# Altium integrated library TI Power Management Power Modules.IntLib: 831 symbols (part 11 of 44)
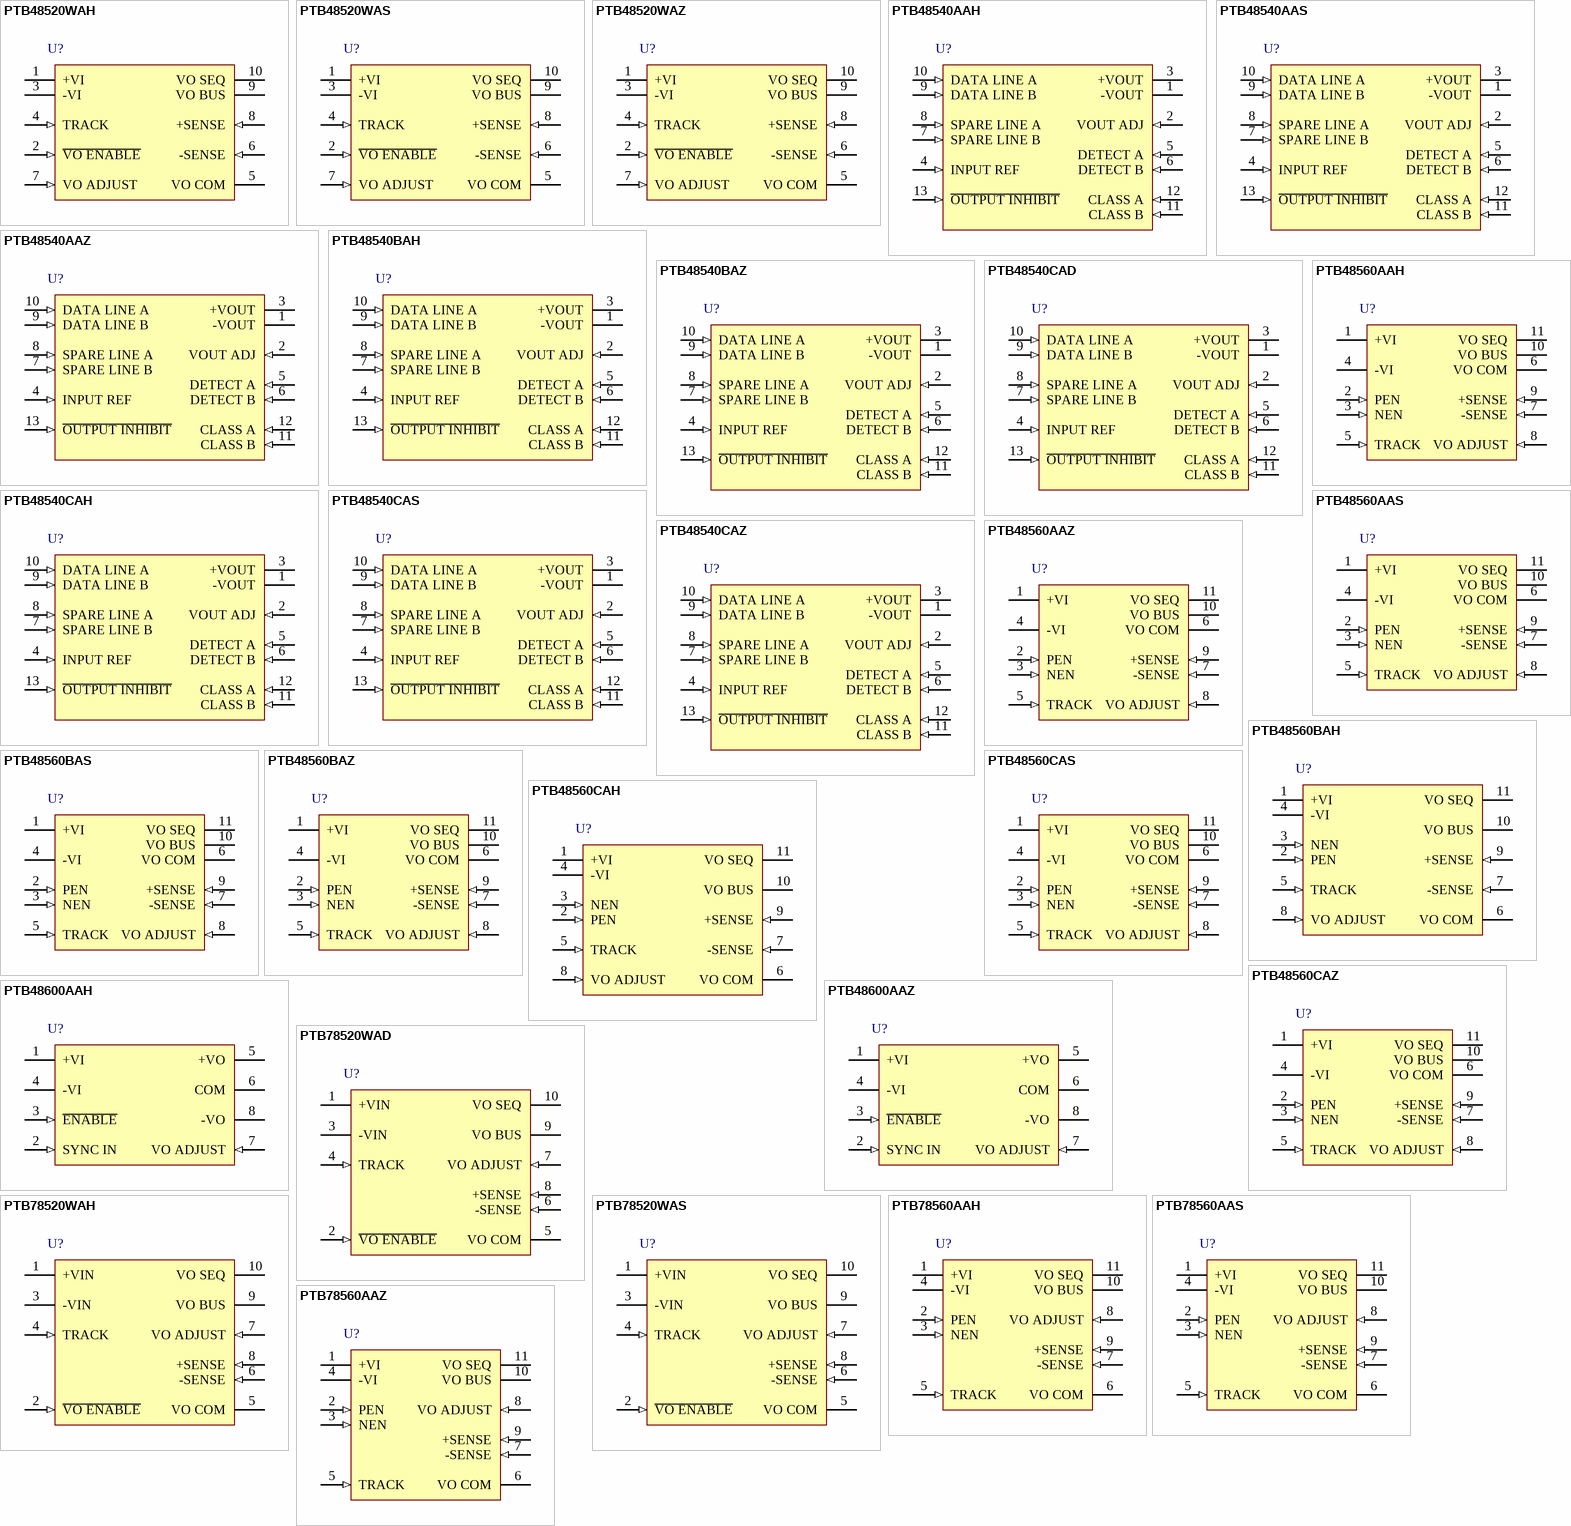
[diagram p33: symbols PTB48520WAH to PTB78560AAZ]

## PTB48560CAS
designator U?
30 W, 9 to 13.2 V Adjustable DC-DC Converter with Auto-Track, -40 to 85 degC, 11-pin Module (ERY11); Manufacturer: Texas Instruments; PartNumber: PTB48560CAS; Eco-Plan: TBD; Iout(Max)(A): 2.5; Regulated Outputs(#): 1; SubFamily: Standard Brick Module; Vin(Max)(V): 75; Vin(Min)(V): 36; VO Adjustable: TRUE; Vout(Max)(V): 13.2; Vout(Min)(V): 9; DatasheetVersion: SLTS236A; PackageVersion: 4206563/A; PackageReference: ERY11; PackageDescription: 11-Pin Plastic Special Shape, Body 26.54 x 51.94 mm; Supplier 1: Digi-Key; Supplier Part Number 1: 296-20345-ND; Supplier 2: Newark; Supplier Part Number 2: 28K3815; Supplier 3: Mouser; Supplier Part Number 3: 595-PTB48560CAS; Mounting Technology: Surface Mount; ComponentLink1Description: Manufacturer URL; ComponentLink1URL: http://www.ti.com/; ComponentLink2Description: Datasheet; ComponentLink2URL: http://www.ti.com/general/docs/lit/getliterature.tsp?genericPartNumber=PTB48560C&fileType=pdf; ComponentLink3Description: Package Specification; ComponentLink3URL: http://www.ti.com/lit/ml/mpds198/mpds198.pdf; ComponentLink4Description: URL Link1; ComponentLink4URL: Samples URL:http://www.ti.com/product/ptb48560c#samples
footprint TI-ERY11_V (Module, 11-Leads, Body 51.94x26.54mm)
pins: 1 +VI (power) "The positive input for the module with respect to -VI . When powering the module from a negative input voltage, this input is connected to the input source ground.", 2 PEN (in) "An open-collector (open-drain) positive logic input that is referenced to -VI . When this input is pulled to potential the converter output is disabled. This input must be open circuit for the converter to operate. The (See Datasheet)", 3 NEN (in) "An open-collector (open-drain) negative logic input that is referenced to -VI . This input must be pulled to -VI potential to enable the converter. When the input is open circuit, the converter output is disabled. If the (See Datasheet)", 4 -VI (power) "The negative input supply for the module, and the 0-V reference for the PEN and NEN enable inputs. When powering the module from a positive source, this input is connected to the input source return.", 5 TRACK (in) "This terminal is used in power-up sequencing applications to control the output voltage of Auto-Track compatible modules, powered from the converter VOBus output. This includes the converter VOSeq output on the PTB78560B. (See Datasheet)", 6 VO COM (power) "This is the output power return for both the VO Bus and VO Seq output voltages. This terminal should be connected to the common of the load circuit.", 7 -SENSE (in) "Provides the converter with a remote sense capability when used with +Sense. For optimum output voltage accuracy, this pin should always be connected to VOCOM, close to the load circuit. This terminal is also the reference (See Datasheet)", 8 VO ADJUST (in) "A resistor must be connected between this terminal and -Sense to set the converter output voltage. A 0.05-W rated resistor may be used, with tolerance and temperature stability of 1% and 100 ppm/degreesC, respectively. If (See Datasheet)", 9 +SENSE (in) "The +Sense pin can be connected to VOBus (or VOSeq) output. When connected to VOSeq, remote sense compensation is delayed until the converter's power-up sequence is complete. The voltage at VOBus is also raised slightly. The (See Datasheet)", 10 VO BUS (power) "This is the positive power output with respect to VO COM, and the main output from the converter. It is dc isolated from the input power pins and produces a valid output voltage approximately 20 ms before the voltage at the (See Datasheet)", 11 VO SEQ (power) "This is a sequenced output voltage from the converter that is controlled by the Track terminal during power-up transitions. It is only available to the PTB78560B, and used with the output voltage set to 3.3 V (an I/O supply (See Datasheet)"

## PTB48560CAZ
designator U?
30 W, 9 to 13.2 V Adjustable DC-DC Converter with Auto-Track, -40 to 85 degC, 11-pin Module (ERY11), Pb-Free (RoHS); Manufacturer: Texas Instruments; PartNumber: PTB48560CAZ; Iout(Max)(A): 2.5; Regulated Outputs(#): 1; SubFamily: Standard Brick Module; Vin(Max)(V): 75; Vin(Min)(V): 36; VO Adjustable: TRUE; Vout(Max)(V): 13.2; Vout(Min)(V): 9; DatasheetVersion: SLTS236A; PackageVersion: 4206563/A; PackageReference: ERY11; PackageDescription: 11-Pin Plastic Special Shape, Body 26.54 x 51.94 mm; Supplier 1: Digi-Key; Supplier Part Number 1: 296-20346-ND; Supplier 2: Mouser; Supplier Part Number 2: 595-PTB48560CAZ; Eco-Plan: Pb-Free (RoHS); Mounting Technology: Surface Mount; ComponentLink1Description: Manufacturer URL; ComponentLink1URL: http://www.ti.com/; ComponentLink2Description: Datasheet; ComponentLink2URL: http://www.ti.com/general/docs/lit/getliterature.tsp?genericPartNumber=PTB48560C&fileType=pdf; ComponentLink3Description: Package Specification; ComponentLink3URL: http://www.ti.com/lit/ml/mpds198/mpds198.pdf; ComponentLink4Description: URL Link1; ComponentLink4URL: Samples URL:http://www.ti.com/product/ptb48560c#samples
footprint TI-ERY11_V (Module, 11-Leads, Body 51.94x26.54mm)
pins: 1 +VI (power) "The positive input for the module with respect to -VI . When powering the module from a negative input voltage, this input is connected to the input source ground.", 2 PEN (in) "An open-collector (open-drain) positive logic input that is referenced to -VI . When this input is pulled to potential the converter output is disabled. This input must be open circuit for the converter to operate. The (See Datasheet)", 3 NEN (in) "An open-collector (open-drain) negative logic input that is referenced to -VI . This input must be pulled to -VI potential to enable the converter. When the input is open circuit, the converter output is disabled. If the (See Datasheet)", 4 -VI (power) "The negative input supply for the module, and the 0-V reference for the PEN and NEN enable inputs. When powering the module from a positive source, this input is connected to the input source return.", 5 TRACK (in) "This terminal is used in power-up sequencing applications to control the output voltage of Auto-Track compatible modules, powered from the converter VOBus output. This includes the converter VOSeq output on the PTB78560B. (See Datasheet)", 6 VO COM (power) "This is the output power return for both the VO Bus and VO Seq output voltages. This terminal should be connected to the common of the load circuit.", 7 -SENSE (in) "Provides the converter with a remote sense capability when used with +Sense. For optimum output voltage accuracy, this pin should always be connected to VOCOM, close to the load circuit. This terminal is also the reference (See Datasheet)", 8 VO ADJUST (in) "A resistor must be connected between this terminal and -Sense to set the converter output voltage. A 0.05-W rated resistor may be used, with tolerance and temperature stability of 1% and 100 ppm/degreesC, respectively. If (See Datasheet)", 9 +SENSE (in) "The +Sense pin can be connected to VOBus (or VOSeq) output. When connected to VOSeq, remote sense compensation is delayed until the converter's power-up sequence is complete. The voltage at VOBus is also raised slightly. The (See Datasheet)", 10 VO BUS (power) "This is the positive power output with respect to VO COM, and the main output from the converter. It is dc isolated from the input power pins and produces a valid output voltage approximately 20 ms before the voltage at the (See Datasheet)", 11 VO SEQ (power) "This is a sequenced output voltage from the converter that is controlled by the Track terminal during power-up transitions. It is only available to the PTB78560B, and used with the output voltage set to 3.3 V (an I/O supply (See Datasheet)"

## PTB48600AAH
designator U?
85 W Dual Complementary-Output DC-DC Converter, -40 to 85 degC, 8-pin Module (ERT8), Pb-Free (RoHS); Manufacturer: Texas Instruments; PartNumber: PTB48600AAH; Iout(Max)(A): 8.5; Regulated Outputs(#): 2; SubFamily: 36V to 75V Input; Vin(Max)(V): 75; Vin(Min)(V): 36; VO Adjustable: TRUE; Vout(Max)(V): 4.75; Vout(Min)(V): 5.25; DatasheetVersion: SLTS239; PackageVersion: 4206559-2/B; PackageReference: ERT8; PackageDescription: 8-Pin Plastic Special Shape, Body 48.01 x 56.39 mm; Supplier 1: Digi-Key; Supplier Part Number 1: 296-20984-ND; Supplier 2: Newark; Supplier Part Number 2: 24K4724; Supplier 3: Mouser; Supplier Part Number 3: 595-PTB48600AAH; Eco-Plan: Pb-Free (RoHS); Mounting Technology: Through Hole; ComponentLink1Description: Manufacturer URL; ComponentLink1URL: http://www.ti.com/; ComponentLink2Description: Datasheet; ComponentLink2URL: http://www.ti.com/general/docs/lit/getliterature.tsp?genericPartNumber=PTB48600A&fileType=pdf; ComponentLink3Description: Package Specification; ComponentLink3URL: http://www.ti.com/litv/pdf/mpds194a; ComponentLink4Description: URL Link1; ComponentLink4URL: Samples URL:http://www.ti.com/product/ptb48600a#samples
footprint TI-ERT8_V (Module, 8-Leads, Body 56.39x48.01mm)
pins: 1 +VI (power) "The positive input supply for the module with respect to -VI. When powering the module from a -48 V telecom central office supply, this input is connected to the primary system ground.", 2 SYNC IN (in) "This pin is used when the PTB48600 and PTB4850x DC/DC converter modules are used together. Connecting this pin to the ‘Sync Out’ of the PTB4850x module allows the PTB48600 to be synchronized to the same switch conversion (See Datasheet)", 3 ~{ENABLE} (in) "This is an open-collector (open-drain) negative logic input that enables the module output. This pin is referenced to -VI. A logic ‘0’ at this pin enables the module’s outputs, and a high impedance disables the outputs. If (See Datasheet)", 4 -VI (power) "The negative input supply for the module, and the 0 VDC reference for the ‘Enable*’, and ‘Sync In’ signals. When the module is powered from a +48-V supply, this input is connected to the 48-V Return.", 5 +VO (power) "The positive output supply voltage, which is referenced to the ‘COM’ node. The voltage at ‘+VO’ has the same magnitude, but is the complement to that at ‘-VO’.", 6 COM (power) "The secondary return reference for the module’s regulated output voltages. This node is dc isolated from the input supply pins.", 7 VO ADJUST (in) "Using a single resistor, this pin allows the magnitude of both ‘+VO’ and ‘-VO’ to be adjusted together, either higher or lower than their preset value. If not used, this pin should be left open circuit.", 8 -VO (power) "The negative output supply voltage, which is referenced to the ‘COM’ node. The voltage at ‘-VO’ has the same magnitude, but is the complement to that at ‘+VO’."

## PTB48600AAZ
designator U?
85 W Dual Complementary-Output DC-DC Converter, -40 to 85 degC, 8-pin Module (ERU8), Pb-Free (RoHS); Manufacturer: Texas Instruments; PartNumber: PTB48600AAZ; Iout(Max)(A): 8.5; Regulated Outputs(#): 2; SubFamily: 36V to 75V Input; Vin(Max)(V): 75; Vin(Min)(V): 36; VO Adjustable: TRUE; Vout(Max)(V): 4.75; Vout(Min)(V): 5.25; DatasheetVersion: SLTS239; PackageVersion: 4206560-2/B; PackageReference: ERU8; PackageDescription: 8-Pin Plastic Special Shape, Body 48.01 x 56.39 mm; Supplier 1: Digi-Key; Supplier Part Number 1: 296-20354-ND; Supplier 2: Newark; Supplier Part Number 2: 37K0692; Supplier 3: Mouser; Supplier Part Number 3: 595-PTB48600AAZ; Eco-Plan: Pb-Free (RoHS); Mounting Technology: Surface Mount; ComponentLink1Description: Manufacturer URL; ComponentLink1URL: http://www.ti.com/; ComponentLink2Description: Datasheet; ComponentLink2URL: http://www.ti.com/general/docs/lit/getliterature.tsp?genericPartNumber=PTB48600A&fileType=pdf; ComponentLink3Description: Package Specification; ComponentLink3URL: http://www.ti.com/lit/ml/mpds195a/mpds195a.pdf; ComponentLink4Description: URL Link1; ComponentLink4URL: Samples URL:http://www.ti.com/product/ptb48600a#samples
footprint TI-ERU8_V (Module, 8-Leads, Body 56.39x48.01mm)
pins: 1 +VI (power) "The positive input supply for the module with respect to -VI. When powering the module from a -48 V telecom central office supply, this input is connected to the primary system ground.", 2 SYNC IN (in) "This pin is used when the PTB48600 and PTB4850x DC/DC converter modules are used together. Connecting this pin to the ‘Sync Out’ of the PTB4850x module allows the PTB48600 to be synchronized to the same switch conversion (See Datasheet)", 3 ~{ENABLE} (in) "This is an open-collector (open-drain) negative logic input that enables the module output. This pin is referenced to -VI. A logic ‘0’ at this pin enables the module’s outputs, and a high impedance disables the outputs. If (See Datasheet)", 4 -VI (power) "The negative input supply for the module, and the 0 VDC reference for the ‘Enable*’, and ‘Sync In’ signals. When the module is powered from a +48-V supply, this input is connected to the 48-V Return.", 5 +VO (power) "The positive output supply voltage, which is referenced to the ‘COM’ node. The voltage at ‘+VO’ has the same magnitude, but is the complement to that at ‘-VO’.", 6 COM (power) "The secondary return reference for the module’s regulated output voltages. This node is dc isolated from the input supply pins.", 7 VO ADJUST (in) "Using a single resistor, this pin allows the magnitude of both ‘+VO’ and ‘-VO’ to be adjusted together, either higher or lower than their preset value. If not used, this pin should be left open circuit.", 8 -VO (power) "The negative output supply voltage, which is referenced to the ‘COM’ node. The voltage at ‘-VO’ has the same magnitude, but is the complement to that at ‘+VO’."

## PTB78520WAD
designator U?
20 A, 18 to 60 V Input Auto-Track Compatible Isolated DC-DC Converter, -40 to 85 degC, 10-pin Module (ERP10), Pb-Free (RoHS); Manufacturer: Texas Instruments; PartNumber: PTB78520WAD; Iout(Max)(A): 20; Regulated Outputs(#): 2; SubFamily: Standard Brick Module; Vin(Max)(V): 60; Vin(Min)(V): 18; VO Adjustable: TRUE; Vout(Max)(V): 3.6; Vout(Min)(V): 1.8; DatasheetVersion: SLTS226A; PackageVersion: 4206093/A; PackageReference: ERP10; PackageDescription: 10-Pin Plastic Special Shape, Body 36.83 x 56.39 mm; Supplier 1: Digi-Key; Supplier Part Number 1: PTB78520WAD-ND; Supplier 2: Mouser; Supplier Part Number 2: 595-PTB78520WAD; Eco-Plan: Pb-Free (RoHS); Mounting Technology: Through Hole; ComponentLink1Description: Manufacturer URL; ComponentLink1URL: http://www.ti.com/; ComponentLink2Description: Datasheet; ComponentLink2URL: http://www.ti.com/general/docs/lit/getliterature.tsp?genericPartNumber=PTB78520W&fileType=pdf; ComponentLink3Description: Package Specification; ComponentLink3URL: http://www.ti.com/litv/pdf/mpds170; ComponentLink4Description: URL Link1; ComponentLink4URL: Samples URL:http://www.ti.com/product/ptb78520w#samples
footprint TI-ERP10_V (Module, 10-Leads, Body 56.39x36.83mm)
pins: 1 +VIN (power) "The positive input for the module with respect to -VIN. When powering the module from a negative input voltage, this input is connected to the input source ground.", 2 ~{VO ENABLE} (in) "An open-collector (open-drain) negative logic input that is referenced to -VIN. This input must be pulled to -Vin potential to enable the output voltage. A highimpedance connection will disable the module output. If the (See Datasheet)", 3 -VIN (power) "The negative input supply for the module, and the 0-V reference for the ‘VO Enable’ input. When powering the module from a positive source, this input is connected to the input source return.", 4 TRACK (in) "The voltage at this pin directly controls the voltage at the ‘VO Seq’ regulated output. It is primarily used to sequence the voltage at ‘VO Seq’ with the regulated outputs from any downstream non-isolated modules that are (See Datasheet)", 5 VO COM (power) "This is the output power return for both the ‘VO Bus’ and ‘VO Seq’ output voltages. This node should be connected to the load circuit common.", 6 -SENSE (in) "Provides the converter with a remote sense capability when used in conjunction with +Sense. For optimum output voltage accuracy this pin should always be connected to ‘VO COM’. This pin is also the reference connection for (See Datasheet)", 7 VO ADJUST (in) "A resistor must be connected between this pin and ‘-Sense’ to set the converter’s output voltage. A 0.05-W rated resistor may be used, with tolerance and temperature stability of 1% and 100 ppm/degreesC, respectively. If (See Datasheet)", 8 +SENSE (in) "The ‘+Sense’ pin can be connected to either the ‘VO Bus’ or ‘VO Seq’ outputs. When connected to ‘VO Seq’, remote sense compensation will be delayed until the power-up sequence is complete. The voltage at ‘Vo Bus’ will also (See Datasheet)", 9 VO BUS (power) "Produces a positive power output with respect to ‘VO COM’. This is the main output from the converter when operated in a stand-alone configuration. It is dcisolated from the input power pins and is the first output to rise (See Datasheet)", 10 VO SEQ (power) "This is the sequenced output voltage from the converter. This voltage can be directly controlled from the Track pin. During power up, VO Seq will rise with the Track pin voltage, typically 20 ms after the VO Bus output has (See Datasheet)"

## PTB78520WAH
designator U?
20 A, 18 to 60 V Input Auto-Track Compatible Isolated DC-DC Converter, -40 to 85 degC, 10-pin Module (ERP10), Pb-Free (RoHS); Manufacturer: Texas Instruments; PartNumber: PTB78520WAH; Iout(Max)(A): 20; Regulated Outputs(#): 2; SubFamily: Standard Brick Module; Vin(Max)(V): 60; Vin(Min)(V): 18; VO Adjustable: TRUE; Vout(Max)(V): 3.6; Vout(Min)(V): 1.8; DatasheetVersion: SLTS226A; PackageVersion: 4206093/A; PackageReference: ERP10; PackageDescription: 10-Pin Plastic Special Shape, Body 36.83 x 56.39 mm; Supplier 1: Digi-Key; Supplier Part Number 1: 296-20355-ND; Supplier 2: Newark; Supplier Part Number 2: 44J0215; Supplier 3: Mouser; Supplier Part Number 3: 595-PTB78520WAH; Eco-Plan: Pb-Free (RoHS); Mounting Technology: Through Hole; ComponentLink1Description: Manufacturer URL; ComponentLink1URL: http://www.ti.com/; ComponentLink2Description: Datasheet; ComponentLink2URL: http://www.ti.com/general/docs/lit/getliterature.tsp?genericPartNumber=PTB78520W&fileType=pdf; ComponentLink3Description: Package Specification; ComponentLink3URL: http://www.ti.com/litv/pdf/mpds170; ComponentLink4Description: URL Link1; ComponentLink4URL: Samples URL:http://www.ti.com/product/ptb78520w#samples
footprint TI-ERP10_V (Module, 10-Leads, Body 56.39x36.83mm)
pins: 1 +VIN (power) "The positive input for the module with respect to -VIN. When powering the module from a negative input voltage, this input is connected to the input source ground.", 2 ~{VO ENABLE} (in) "An open-collector (open-drain) negative logic input that is referenced to -VIN. This input must be pulled to -Vin potential to enable the output voltage. A highimpedance connection will disable the module output. If the (See Datasheet)", 3 -VIN (power) "The negative input supply for the module, and the 0-V reference for the ‘VO Enable’ input. When powering the module from a positive source, this input is connected to the input source return.", 4 TRACK (in) "The voltage at this pin directly controls the voltage at the ‘VO Seq’ regulated output. It is primarily used to sequence the voltage at ‘VO Seq’ with the regulated outputs from any downstream non-isolated modules that are (See Datasheet)", 5 VO COM (power) "This is the output power return for both the ‘VO Bus’ and ‘VO Seq’ output voltages. This node should be connected to the load circuit common.", 6 -SENSE (in) "Provides the converter with a remote sense capability when used in conjunction with +Sense. For optimum output voltage accuracy this pin should always be connected to ‘VO COM’. This pin is also the reference connection for (See Datasheet)", 7 VO ADJUST (in) "A resistor must be connected between this pin and ‘-Sense’ to set the converter’s output voltage. A 0.05-W rated resistor may be used, with tolerance and temperature stability of 1% and 100 ppm/degreesC, respectively. If (See Datasheet)", 8 +SENSE (in) "The ‘+Sense’ pin can be connected to either the ‘VO Bus’ or ‘VO Seq’ outputs. When connected to ‘VO Seq’, remote sense compensation will be delayed until the power-up sequence is complete. The voltage at ‘Vo Bus’ will also (See Datasheet)", 9 VO BUS (power) "Produces a positive power output with respect to ‘VO COM’. This is the main output from the converter when operated in a stand-alone configuration. It is dcisolated from the input power pins and is the first output to rise (See Datasheet)", 10 VO SEQ (power) "This is the sequenced output voltage from the converter. This voltage can be directly controlled from the Track pin. During power up, VO Seq will rise with the Track pin voltage, typically 20 ms after the VO Bus output has (See Datasheet)"

## PTB78520WAS
designator U?
20 A, 18 to 60 V Input Auto-Track Compatible Isolated DC-DC Converter, -40 to 85 degC, 10-pin Module (ERQ10); Manufacturer: Texas Instruments; PartNumber: PTB78520WAS; Iout(Max)(A): 20; Regulated Outputs(#): 2; SubFamily: Standard Brick Module; Vin(Max)(V): 60; Vin(Min)(V): 18; VO Adjustable: TRUE; Vout(Max)(V): 3.6; Vout(Min)(V): 1.8; DatasheetVersion: SLTS226A; PackageVersion: 4206094-2/C; PackageReference: ERQ10; PackageDescription: 10-Pin Plastic Special Shape, Body 36.83 x 56.39 mm; Supplier 1: Digi-Key; Supplier Part Number 1: 296-20356-ND; Supplier 2: Newark; Supplier Part Number 2: 44J0216; Supplier 3: Mouser; Supplier Part Number 3: 595-PTB78520WAS; Mounting Technology: Surface Mount; ComponentLink1Description: Manufacturer URL; ComponentLink1URL: http://www.ti.com/; ComponentLink2Description: Datasheet; ComponentLink2URL: http://www.ti.com/general/docs/lit/getliterature.tsp?genericPartNumber=PTB78520W&fileType=pdf; ComponentLink3Description: Package Specification; ComponentLink3URL: http://www.ti.com/lit/ml/mpds171b/mpds171b.pdf; ComponentLink4Description: URL Link1; ComponentLink4URL: Samples URL:http://www.ti.com/product/ptb78520w#samples
footprint TI-ERQ10_V (Module, 10-Leads, Body 56.39x36.83mm, Pitch 3.81mm)
pins: 1 +VIN (power) "The positive input for the module with respect to -VIN. When powering the module from a negative input voltage, this input is connected to the input source ground.", 2 ~{VO ENABLE} (in) "An open-collector (open-drain) negative logic input that is referenced to -VIN. This input must be pulled to -Vin potential to enable the output voltage. A highimpedance connection will disable the module output. If the (See Datasheet)", 3 -VIN (power) "The negative input supply for the module, and the 0-V reference for the ‘VO Enable’ input. When powering the module from a positive source, this input is connected to the input source return.", 4 TRACK (in) "The voltage at this pin directly controls the voltage at the ‘VO Seq’ regulated output. It is primarily used to sequence the voltage at ‘VO Seq’ with the regulated outputs from any downstream non-isolated modules that are (See Datasheet)", 5 VO COM (power) "This is the output power return for both the ‘VO Bus’ and ‘VO Seq’ output voltages. This node should be connected to the load circuit common.", 6 -SENSE (in) "Provides the converter with a remote sense capability when used in conjunction with +Sense. For optimum output voltage accuracy this pin should always be connected to ‘VO COM’. This pin is also the reference connection for (See Datasheet)", 7 VO ADJUST (in) "A resistor must be connected between this pin and ‘-Sense’ to set the converter’s output voltage. A 0.05-W rated resistor may be used, with tolerance and temperature stability of 1% and 100 ppm/degreesC, respectively. If (See Datasheet)", 8 +SENSE (in) "The ‘+Sense’ pin can be connected to either the ‘VO Bus’ or ‘VO Seq’ outputs. When connected to ‘VO Seq’, remote sense compensation will be delayed until the power-up sequence is complete. The voltage at ‘Vo Bus’ will also (See Datasheet)", 9 VO BUS (power) "Produces a positive power output with respect to ‘VO COM’. This is the main output from the converter when operated in a stand-alone configuration. It is dcisolated from the input power pins and is the first output to rise (See Datasheet)", 10 VO SEQ (power) "This is the sequenced output voltage from the converter. This voltage can be directly controlled from the Track pin. During power up, VO Seq will rise with the Track pin voltage, typically 20 ms after the VO Bus output has (See Datasheet)"

## PTB78560AAH
designator U?
30 W, 24 V / 48 V Input DC-DC Converter With Auto-Track Sequencing, -40 to 85 degC, 11-pin Module (ERW11), Pb-Free (RoHS); Manufacturer: Texas Instruments; PartNumber: PTB78560AAH; Iout(Max)(A): 6; Regulated Outputs(#): 1; SubFamily: Standard Brick Module; Vin(Max)(V): 60; Vin(Min)(V): 18; VO Adjustable: TRUE; Vout(Max)(V): 5.5; Vout(Min)(V): 3.6; DatasheetVersion: SLTS249; PackageVersion: 4206562/A; PackageReference: ERW11; PackageDescription: 11-Pin Plastic Special Shape, Body 26.54 x 51.94 mm; Supplier 1: Digi-Key; Supplier Part Number 1: 296-20357-ND; Supplier 2: Newark; Supplier Part Number 2: 43K4048; Supplier 3: Mouser; Supplier Part Number 3: 595-PTB78560AAH; Eco-Plan: Pb-Free (RoHS); Mounting Technology: Through Hole; ComponentLink1Description: Manufacturer URL; ComponentLink1URL: http://www.ti.com/; ComponentLink2Description: Datasheet; ComponentLink2URL: http://www.ti.com/general/docs/lit/getliterature.tsp?genericPartNumber=PTB78560A&fileType=pdf; ComponentLink3Description: Package Specification; ComponentLink3URL: http://www.ti.com/litv/pdf/mpds197; ComponentLink4Description: URL Link1; ComponentLink4URL: Samples URL:http://www.ti.com/product/ptb78560a#samples
footprint TI-ERW11_V (Module, 11-Leads, Body 51.94x26.54 mm)
pins: 1 +VI (power) "The positive input for the module with respect to -VI. When powering the module from a negative input voltage,this input is connected to the input source ground.", 2 PEN (in) "An open-collector (open-drain) positive logic input that is referenced to -VI. When this input is pulled to -VI potential the converter output is disabled. This input must be open circuit for the converter to operate. The (See Datasheet)", 3 NEN (in) "An open-collector (open-drain) negative logic input that is referenced to -VI. This input must be pulled to -VI potential to enable the converter. When the input is open circuit, the converter output is disabled. If the (See Datasheet)", 4 -VI (power) "The negative input supply for the module, and the 0-V reference for the PEN and NEN enable inputs. When powering the module from a positive source, this input is connected to the input source return.", 5 TRACK (in) "This terminal is used in power-up sequencing applications to control the output voltage of Auto-Track compatible modules, powered from the converter VOBus output. This includes the converter VOSeq output on the PTB78560B. (See Datasheet)", 6 VO COM (power) "This is the output power return for both the VO Bus and VO Seq output voltages. This terminal should be connected to the common of the load circuit.", 7 -SENSE (in) "Provides the converter with a remote sense capability when used with +Sense. For optimum output voltage accuracy, this pin should always be connected to VOCOM, close to the load circuit. This terminal is also the reference (See Datasheet)", 8 VO ADJUST (in) "A resistor must be connected between this terminal and -Sense to set the converter output voltage. A 0.05-W rated resistor may be used, with tolerance and temperature stability of 1% and 100 ppm/degreesC, respectively. If (See Datasheet)", 9 +SENSE (in) "The +Sense pin can be connected to VOBus (or VOSeq) output. When connected to VOSeq, remote sense compensation is delayed until the converter's power-up sequence is complete. The voltage at VOBus is also raised slightly. The (See Datasheet)", 10 VO BUS (power) "This is the positive power output with respect to VO COM, and the main output from the converter. It is dc isolated from the input power pins and produces a valid output voltage approximately 20 ms before the voltage at the (See Datasheet)", 11 VO SEQ (power) "This is a sequenced output voltage from the converter that is controlled by the Track terminal during power-up transitions. It is only available to the PTB78560B, and used with the output voltage set to 3.3 V (an I/O supply (See Datasheet)"

## PTB78560AAS
designator U?
30 W, 24 V / 48 V Input DC-DC Converter With Auto-Track Sequencing, -40 to 85 degC, 11-pin Module (ERY11); Manufacturer: Texas Instruments; PartNumber: PTB78560AAS; Eco-Plan: TBD; Iout(Max)(A): 6; Regulated Outputs(#): 1; SubFamily: Standard Brick Module; Vin(Max)(V): 60; Vin(Min)(V): 18; VO Adjustable: TRUE; Vout(Max)(V): 5.5; Vout(Min)(V): 3.6; DatasheetVersion: SLTS249; PackageVersion: 4206563/A; PackageReference: ERY11; PackageDescription: 11-Pin Plastic Special Shape, Body 26.54 x 51.94 mm; Supplier 1: Digi-Key; Supplier Part Number 1: 296-20358-ND; Supplier 2: Newark; Supplier Part Number 2: 43K4049; Supplier 3: Mouser; Supplier Part Number 3: 595-PTB78560AAS; Mounting Technology: Surface Mount; ComponentLink1Description: Manufacturer URL; ComponentLink1URL: http://www.ti.com/; ComponentLink2Description: Datasheet; ComponentLink2URL: http://www.ti.com/general/docs/lit/getliterature.tsp?genericPartNumber=PTB78560A&fileType=pdf; ComponentLink3Description: Package Specification; ComponentLink3URL: http://www.ti.com/lit/ml/mpds198/mpds198.pdf; ComponentLink4Description: URL Link1; ComponentLink4URL: Samples URL:http://www.ti.com/product/ptb78560a#samples
footprint TI-ERY11_V (Module, 11-Leads, Body 51.94x26.54mm)
pins: 1 +VI (power) "The positive input for the module with respect to -VI. When powering the module from a negative input voltage,this input is connected to the input source ground.", 2 PEN (in) "An open-collector (open-drain) positive logic input that is referenced to -VI. When this input is pulled to -VI potential the converter output is disabled. This input must be open circuit for the converter to operate. The (See Datasheet)", 3 NEN (in) "An open-collector (open-drain) negative logic input that is referenced to -VI. This input must be pulled to -VI potential to enable the converter. When the input is open circuit, the converter output is disabled. If the (See Datasheet)", 4 -VI (power) "The negative input supply for the module, and the 0-V reference for the PEN and NEN enable inputs. When powering the module from a positive source, this input is connected to the input source return.", 5 TRACK (in) "This terminal is used in power-up sequencing applications to control the output voltage of Auto-Track compatible modules, powered from the converter VOBus output. This includes the converter VOSeq output on the PTB78560B. (See Datasheet)", 6 VO COM (power) "This is the output power return for both the VO Bus and VO Seq output voltages. This terminal should be connected to the common of the load circuit.", 7 -SENSE (in) "Provides the converter with a remote sense capability when used with +Sense. For optimum output voltage accuracy, this pin should always be connected to VOCOM, close to the load circuit. This terminal is also the reference (See Datasheet)", 8 VO ADJUST (in) "A resistor must be connected between this terminal and -Sense to set the converter output voltage. A 0.05-W rated resistor may be used, with tolerance and temperature stability of 1% and 100 ppm/degreesC, respectively. If (See Datasheet)", 9 +SENSE (in) "The +Sense pin can be connected to VOBus (or VOSeq) output. When connected to VOSeq, remote sense compensation is delayed until the converter's power-up sequence is complete. The voltage at VOBus is also raised slightly. The (See Datasheet)", 10 VO BUS (power) "This is the positive power output with respect to VO COM, and the main output from the converter. It is dc isolated from the input power pins and produces a valid output voltage approximately 20 ms before the voltage at the (See Datasheet)", 11 VO SEQ (power) "This is a sequenced output voltage from the converter that is controlled by the Track terminal during power-up transitions. It is only available to the PTB78560B, and used with the output voltage set to 3.3 V (an I/O supply (See Datasheet)"

## PTB78560AAZ
designator U?
30 W, 24 V / 48 V Input DC-DC Converter With Auto-Track Sequencing, -40 to 85 degC, 11-pin Module (ERY11), Pb-Free (RoHS); Manufacturer: Texas Instruments; PartNumber: PTB78560AAZ; Iout(Max)(A): 6; Regulated Outputs(#): 1; SubFamily: Standard Brick Module; Vin(Max)(V): 60; Vin(Min)(V): 18; VO Adjustable: TRUE; Vout(Max)(V): 5.5; Vout(Min)(V): 3.6; DatasheetVersion: SLTS249; PackageVersion: 4206563/A; PackageReference: ERY11; PackageDescription: 11-Pin Plastic Special Shape, Body 26.54 x 51.94 mm; Supplier 1: Digi-Key; Supplier Part Number 1: 296-20359-ND; Supplier 2: Newark; Supplier Part Number 2: 43K4050; Supplier 3: Mouser; Supplier Part Number 3: 595-PTB78560AAZ; Eco-Plan: Pb-Free (RoHS); Mounting Technology: Surface Mount; ComponentLink1Description: Manufacturer URL; ComponentLink1URL: http://www.ti.com/; ComponentLink2Description: Datasheet; ComponentLink2URL: http://www.ti.com/general/docs/lit/getliterature.tsp?genericPartNumber=PTB78560A&fileType=pdf; ComponentLink3Description: Package Specification; ComponentLink3URL: http://www.ti.com/lit/ml/mpds198/mpds198.pdf; ComponentLink4Description: URL Link1; ComponentLink4URL: Samples URL:http://www.ti.com/product/tps55010#samples
footprint TI-ERY11_V (Module, 11-Leads, Body 51.94x26.54mm)
pins: 1 +VI (power) "The positive input for the module with respect to -VI. When powering the module from a negative input voltage,this input is connected to the input source ground.", 2 PEN (in) "An open-collector (open-drain) positive logic input that is referenced to -VI. When this input is pulled to -VI potential the converter output is disabled. This input must be open circuit for the converter to operate. The (See Datasheet)", 3 NEN (in) "An open-collector (open-drain) negative logic input that is referenced to -VI. This input must be pulled to -VI potential to enable the converter. When the input is open circuit, the converter output is disabled. If the (See Datasheet)", 4 -VI (power) "The negative input supply for the module, and the 0-V reference for the PEN and NEN enable inputs. When powering the module from a positive source, this input is connected to the input source return.", 5 TRACK (in) "This terminal is used in power-up sequencing applications to control the output voltage of Auto-Track compatible modules, powered from the converter VOBus output. This includes the converter VOSeq output on the PTB78560B. (See Datasheet)", 6 VO COM (power) "This is the output power return for both the VO Bus and VO Seq output voltages. This terminal should be connected to the common of the load circuit.", 7 -SENSE (in) "Provides the converter with a remote sense capability when used with +Sense. For optimum output voltage accuracy, this pin should always be connected to VOCOM, close to the load circuit. This terminal is also the reference (See Datasheet)", 8 VO ADJUST (in) "A resistor must be connected between this terminal and -Sense to set the converter output voltage. A 0.05-W rated resistor may be used, with tolerance and temperature stability of 1% and 100 ppm/degreesC, respectively. If (See Datasheet)", 9 +SENSE (in) "The +Sense pin can be connected to VOBus (or VOSeq) output. When connected to VOSeq, remote sense compensation is delayed until the converter's power-up sequence is complete. The voltage at VOBus is also raised slightly. The (See Datasheet)", 10 VO BUS (power) "This is the positive power output with respect to VO COM, and the main output from the converter. It is dc isolated from the input power pins and produces a valid output voltage approximately 20 ms before the voltage at the (See Datasheet)", 11 VO SEQ (power) "This is a sequenced output voltage from the converter that is controlled by the Track terminal during power-up transitions. It is only available to the PTB78560B, and used with the output voltage set to 3.3 V (an I/O supply (See Datasheet)"

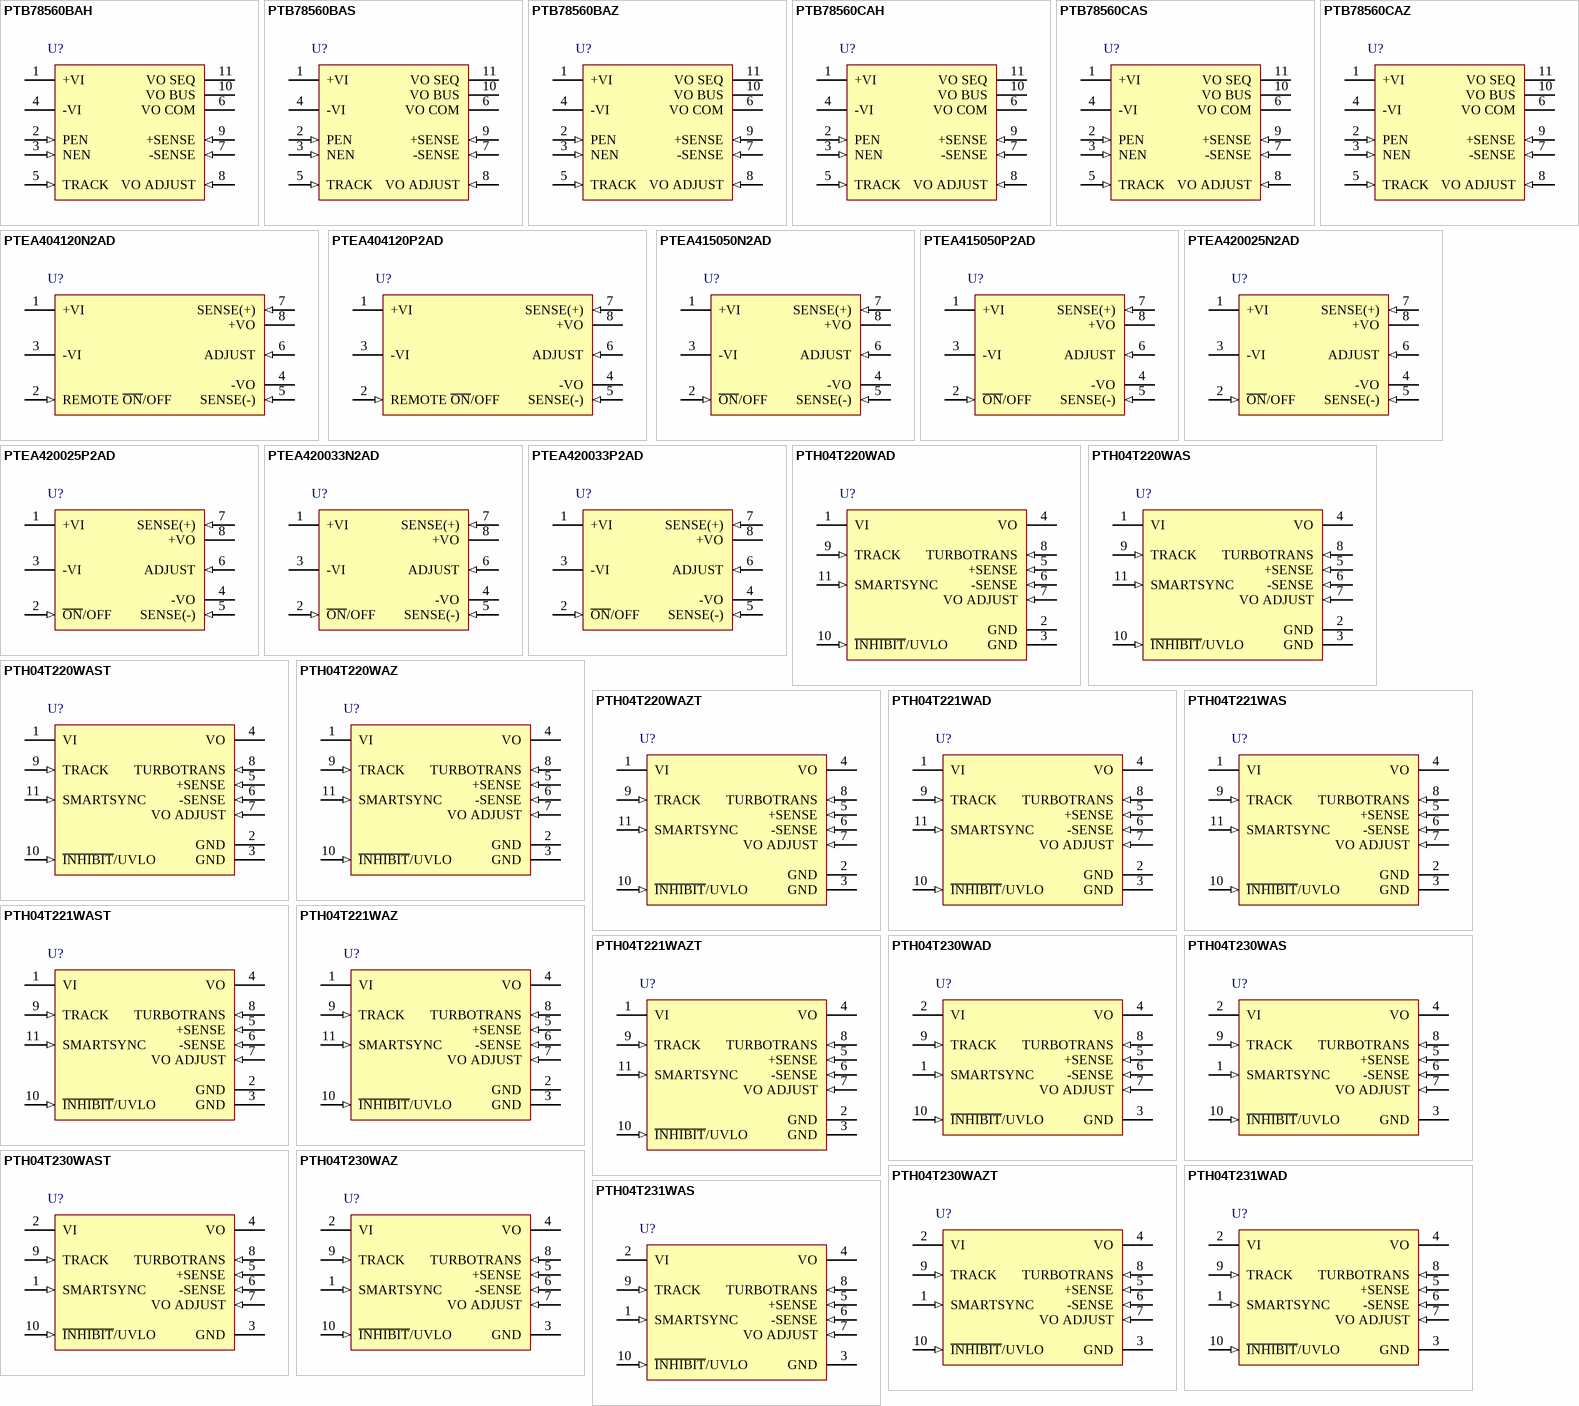
[diagram p8: symbols PTB78560BAH to PTH04T231WAS]

## PTB78560BAH
designator U?
30 W, 24 V / 48 V Input DC-DC Converter With Auto-Track Sequencing, -40 to 85 degC, 11-pin Module (ERW11), Pb-Free (RoHS); Manufacturer: Texas Instruments; PartNumber: PTB78560BAH; Iout(Max)(A): 8; Regulated Outputs(#): 2; SubFamily: Standard Brick Module; Vin(Max)(V): 60; Vin(Min)(V): 18; VO Adjustable: TRUE; Vout(Max)(V): 3.6; Vout(Min)(V): 1.8; DatasheetVersion: SLTS249; PackageVersion: 4206562/A; PackageReference: ERW11; PackageDescription: 11-Pin Plastic Special Shape, Body 26.54 x 51.94 mm; Supplier 1: Digi-Key; Supplier Part Number 1: 296-20360-ND; Supplier 2: Newark; Supplier Part Number 2: 43K4051; Supplier 3: Mouser; Supplier Part Number 3: 595-PTB78560BAH; Eco-Plan: Pb-Free (RoHS); Mounting Technology: Through Hole; ComponentLink1Description: Manufacturer URL; ComponentLink1URL: http://www.ti.com/; ComponentLink2Description: Datasheet; ComponentLink2URL: http://www.ti.com/general/docs/lit/getliterature.tsp?genericPartNumber=PTB78560B&fileType=pdf; ComponentLink3Description: Package Specification; ComponentLink3URL: http://www.ti.com/litv/pdf/mpds197; ComponentLink4Description: URL Link1; ComponentLink4URL: Samples URL:http://www.ti.com/product/ptb78560b#samples
footprint TI-ERW11_V (Module, 11-Leads, Body 51.94x26.54 mm)
pins: 1 +VI (power) "The positive input for the module with respect to -VI . When powering the module from a negative input voltage, this input is connected to the input source ground.", 2 PEN (in) "An open-collector (open-drain) positive logic input that is referenced to -VI . When this input is pulled to potential the converter output is disabled. This input must be open circuit for the converter to operate. The (See Datasheet)", 3 NEN (in) "An open-collector (open-drain) negative logic input that is referenced to -VI . This input must be pulled to -VI potential to enable the converter. When the input is open circuit, the converter output is disabled. If the (See Datasheet)", 4 -VI (power) "The negative input supply for the module, and the 0-V reference for the PEN and NEN enable inputs. When powering the module from a positive source, this input is connected to the input source return.", 5 TRACK (in) "This terminal is used in power-up sequencing applications to control the output voltage of Auto-Track compatible modules, powered from the converter VOBus output. This includes the converter VOSeq output on the PTB78560B. (See Datasheet)", 6 VO COM (power) "This is the output power return for both the VO Bus and VO Seq output voltages. This terminal should be connected to the common of the load circuit.", 7 -SENSE (in) "Provides the converter with a remote sense capability when used with +Sense. For optimum output voltage accuracy, this pin should always be connected to VOCOM, close to the load circuit. This terminal is also the reference (See Datasheet)", 8 VO ADJUST (in) "A resistor must be connected between this terminal and -Sense to set the converter output voltage. A 0.05-W rated resistor may be used, with tolerance and temperature stability of 1% and 100 ppm/degreesC, respectively. If (See Datasheet)", 9 +SENSE (in) "The +Sense pin can be connected to VOBus (or VOSeq) output. When connected to VOSeq, remote sense compensation is delayed until the converter's power-up sequence is complete. The voltage at VOBus is also raised slightly. The (See Datasheet)", 10 VO BUS (power) "This is the positive power output with respect to VO COM, and the main output from the converter. It is dc isolated from the input power pins and produces a valid output voltage approximately 20 ms before the voltage at the (See Datasheet)", 11 VO SEQ (power) "This is a sequenced output voltage from the converter that is controlled by the Track terminal during power-up transitions. It is only available to the PTB78560B, and used with the output voltage set to 3.3 V (an I/O supply (See Datasheet)"

## PTB78560BAS
designator U?
30 W, 24 V / 48 V Input DC-DC Converter With Auto-Track Sequencing, -40 to 85 degC, 11-pin Module (ERY11); Manufacturer: Texas Instruments; PartNumber: PTB78560BAS; Eco-Plan: TBD; Iout(Max)(A): 8; Regulated Outputs(#): 2; SubFamily: Standard Brick Module; Vin(Max)(V): 60; Vin(Min)(V): 18; VO Adjustable: TRUE; Vout(Max)(V): 3.6; Vout(Min)(V): 1.8; DatasheetVersion: SLTS249; PackageVersion: 4206563/A; PackageReference: ERY11; PackageDescription: 11-Pin Plastic Special Shape, Body 26.54 x 51.94 mm; Supplier 1: Digi-Key; Supplier Part Number 1: 296-20361-ND; Supplier 2: Newark; Supplier Part Number 2: 43K4052; Supplier 3: Mouser; Supplier Part Number 3: 595-PTB78560BAS; Mounting Technology: Surface Mount; ComponentLink1Description: Manufacturer URL; ComponentLink1URL: http://www.ti.com/; ComponentLink2Description: Datasheet; ComponentLink2URL: http://www.ti.com/general/docs/lit/getliterature.tsp?genericPartNumber=PTB78560B&fileType=pdf; ComponentLink3Description: Package Specification; ComponentLink3URL: http://www.ti.com/lit/ml/mpds198/mpds198.pdf; ComponentLink4Description: URL Link1; ComponentLink4URL: Samples URL:http://www.ti.com/product/ptb78560b#samples
footprint TI-ERY11_V (Module, 11-Leads, Body 51.94x26.54mm)
pins: 1 +VI (power) "The positive input for the module with respect to -VI . When powering the module from a negative input voltage, this input is connected to the input source ground.", 2 PEN (in) "An open-collector (open-drain) positive logic input that is referenced to -VI . When this input is pulled to potential the converter output is disabled. This input must be open circuit for the converter to operate. The (See Datasheet)", 3 NEN (in) "An open-collector (open-drain) negative logic input that is referenced to -VI . This input must be pulled to -VI potential to enable the converter. When the input is open circuit, the converter output is disabled. If the (See Datasheet)", 4 -VI (power) "The negative input supply for the module, and the 0-V reference for the PEN and NEN enable inputs. When powering the module from a positive source, this input is connected to the input source return.", 5 TRACK (in) "This terminal is used in power-up sequencing applications to control the output voltage of Auto-Track compatible modules, powered from the converter VOBus output. This includes the converter VOSeq output on the PTB78560B. (See Datasheet)", 6 VO COM (power) "This is the output power return for both the VO Bus and VO Seq output voltages. This terminal should be connected to the common of the load circuit.", 7 -SENSE (in) "Provides the converter with a remote sense capability when used with +Sense. For optimum output voltage accuracy, this pin should always be connected to VOCOM, close to the load circuit. This terminal is also the reference (See Datasheet)", 8 VO ADJUST (in) "A resistor must be connected between this terminal and -Sense to set the converter output voltage. A 0.05-W rated resistor may be used, with tolerance and temperature stability of 1% and 100 ppm/degreesC, respectively. If (See Datasheet)", 9 +SENSE (in) "The +Sense pin can be connected to VOBus (or VOSeq) output. When connected to VOSeq, remote sense compensation is delayed until the converter's power-up sequence is complete. The voltage at VOBus is also raised slightly. The (See Datasheet)", 10 VO BUS (power) "This is the positive power output with respect to VO COM, and the main output from the converter. It is dc isolated from the input power pins and produces a valid output voltage approximately 20 ms before the voltage at the (See Datasheet)", 11 VO SEQ (power) "This is a sequenced output voltage from the converter that is controlled by the Track terminal during power-up transitions. It is only available to the PTB78560B, and used with the output voltage set to 3.3 V (an I/O supply (See Datasheet)"

## PTB78560BAZ
designator U?
30 W, 24 V / 48 V Input DC-DC Converter With Auto-Track Sequencing, -40 to 85 degC, 11-pin Module (ERY11), Pb-Free (RoHS); Manufacturer: Texas Instruments; PartNumber: PTB78560BAZ; Iout(Max)(A): 8; Regulated Outputs(#): 2; SubFamily: Standard Brick Module; Vin(Max)(V): 60; Vin(Min)(V): 18; VO Adjustable: TRUE; Vout(Max)(V): 3.6; Vout(Min)(V): 1.8; DatasheetVersion: SLTS249; PackageVersion: 4206563/A; PackageReference: ERY11; PackageDescription: 11-Pin Plastic Special Shape, Body 26.54 x 51.94 mm; Supplier 1: Digi-Key; Supplier Part Number 1: 296-20362-ND; Supplier 2: Newark; Supplier Part Number 2: 43K4053; Supplier 3: Mouser; Supplier Part Number 3: 595-PTB78560BAZ; Eco-Plan: Pb-Free (RoHS); Mounting Technology: Surface Mount; ComponentLink1Description: Manufacturer URL; ComponentLink1URL: http://www.ti.com/; ComponentLink2Description: Datasheet; ComponentLink2URL: http://www.ti.com/general/docs/lit/getliterature.tsp?genericPartNumber=PTB78560B&fileType=pdf; ComponentLink3Description: Package Specification; ComponentLink3URL: http://www.ti.com/lit/ml/mpds198/mpds198.pdf; ComponentLink4Description: URL Link1; ComponentLink4URL: Samples URL:http://www.ti.com/product/tps55010#samples
footprint TI-ERY11_V (Module, 11-Leads, Body 51.94x26.54mm)
pins: 1 +VI (power) "The positive input for the module with respect to -VI . When powering the module from a negative input voltage, this input is connected to the input source ground.", 2 PEN (in) "An open-collector (open-drain) positive logic input that is referenced to -VI . When this input is pulled to potential the converter output is disabled. This input must be open circuit for the converter to operate. The (See Datasheet)", 3 NEN (in) "An open-collector (open-drain) negative logic input that is referenced to -VI . This input must be pulled to -VI potential to enable the converter. When the input is open circuit, the converter output is disabled. If the (See Datasheet)", 4 -VI (power) "The negative input supply for the module, and the 0-V reference for the PEN and NEN enable inputs. When powering the module from a positive source, this input is connected to the input source return.", 5 TRACK (in) "This terminal is used in power-up sequencing applications to control the output voltage of Auto-Track compatible modules, powered from the converter VOBus output. This includes the converter VOSeq output on the PTB78560B. (See Datasheet)", 6 VO COM (power) "This is the output power return for both the VO Bus and VO Seq output voltages. This terminal should be connected to the common of the load circuit.", 7 -SENSE (in) "Provides the converter with a remote sense capability when used with +Sense. For optimum output voltage accuracy, this pin should always be connected to VOCOM, close to the load circuit. This terminal is also the reference (See Datasheet)", 8 VO ADJUST (in) "A resistor must be connected between this terminal and -Sense to set the converter output voltage. A 0.05-W rated resistor may be used, with tolerance and temperature stability of 1% and 100 ppm/degreesC, respectively. If (See Datasheet)", 9 +SENSE (in) "The +Sense pin can be connected to VOBus (or VOSeq) output. When connected to VOSeq, remote sense compensation is delayed until the converter's power-up sequence is complete. The voltage at VOBus is also raised slightly. The (See Datasheet)", 10 VO BUS (power) "This is the positive power output with respect to VO COM, and the main output from the converter. It is dc isolated from the input power pins and produces a valid output voltage approximately 20 ms before the voltage at the (See Datasheet)", 11 VO SEQ (power) "This is a sequenced output voltage from the converter that is controlled by the Track terminal during power-up transitions. It is only available to the PTB78560B, and used with the output voltage set to 3.3 V (an I/O supply (See Datasheet)"